# EAGLE library part AT32UC3A1512/1256/1128 (library atmega-atxmega)
AT32UC3A1512/1256/1128
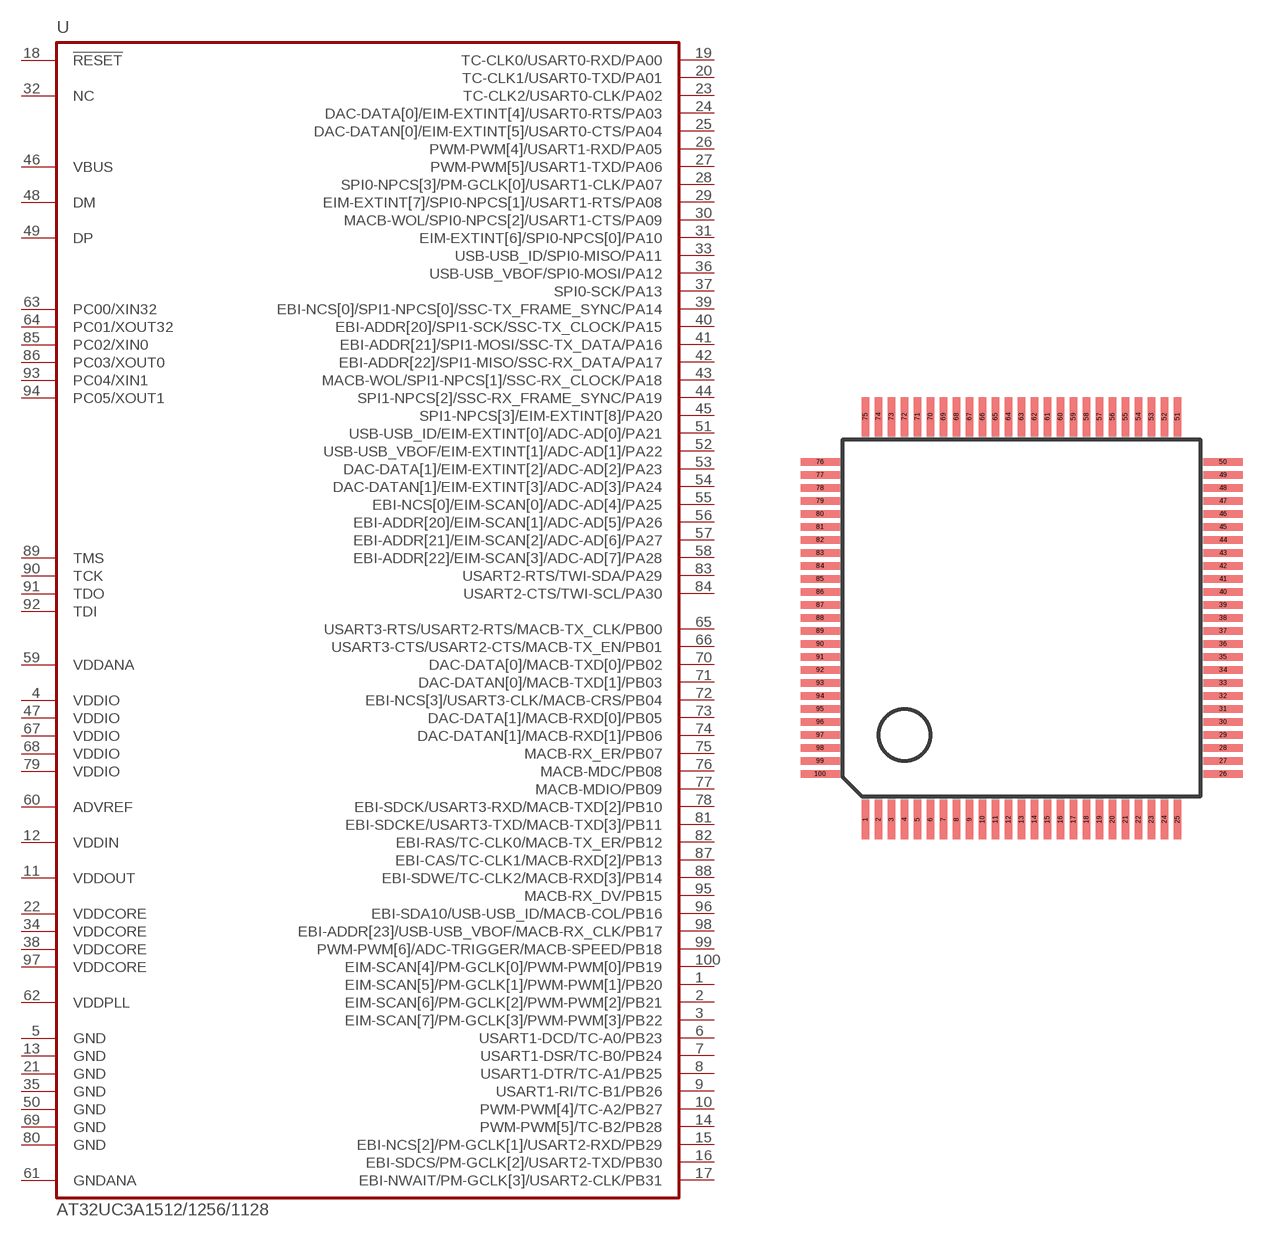
[diagram p91: symbol with the pads of TQFP100; footprint TQFP100]

Designator prefix U

## AT32UC3A1512/1256/1128  [TQFP100]
1  EIM-SCAN[5]/PM-GCLK[1]/PWM-PWM[1]/PB20
2  EIM-SCAN[6]/PM-GCLK[2]/PWM-PWM[2]/PB21
3  EIM-SCAN[7]/PM-GCLK[3]/PWM-PWM[3]/PB22
4  VDDIO  pwr
5  GND  pwr
6  USART1-DCD/TC-A0/PB23
7  USART1-DSR/TC-B0/PB24
8  USART1-DTR/TC-A1/PB25
9  USART1-RI/TC-B1/PB26
10  PWM-PWM[4]/TC-A2/PB27
11  VDDOUT  pwr
12  VDDIN  pwr
13  GND  pwr
14  PWM-PWM[5]/TC-B2/PB28
15  EBI-NCS[2]/PM-GCLK[1]/USART2-RXD/PB29
16  EBI-SDCS/PM-GCLK[2]/USART2-TXD/PB30
17  EBI-NWAIT/PM-GCLK[3]/USART2-CLK/PB31
18  !RESET  in
19  TC-CLK0/USART0-RXD/PA00
20  TC-CLK1/USART0-TXD/PA01
21  GND  pwr
22  VDDCORE  pwr
23  TC-CLK2/USART0-CLK/PA02
24  DAC-DATA[0]/EIM-EXTINT[4]/USART0-RTS/PA03
25  DAC-DATAN[0]/EIM-EXTINT[5]/USART0-CTS/PA04
26  PWM-PWM[4]/USART1-RXD/PA05
27  PWM-PWM[5]/USART1-TXD/PA06
28  SPI0-NPCS[3]/PM-GCLK[0]/USART1-CLK/PA07
29  EIM-EXTINT[7]/SPI0-NPCS[1]/USART1-RTS/PA08
30  MACB-WOL/SPI0-NPCS[2]/USART1-CTS/PA09
31  EIM-EXTINT[6]/SPI0-NPCS[0]/PA10
32  NC  nc
33  USB-USB_ID/SPI0-MISO/PA11
34  VDDCORE  pwr
35  GND  pwr
36  USB-USB_VBOF/SPI0-MOSI/PA12
37  SPI0-SCK/PA13
38  VDDCORE  pwr
39  EBI-NCS[0]/SPI1-NPCS[0]/SSC-TX_FRAME_SYNC/PA14
40  EBI-ADDR[20]/SPI1-SCK/SSC-TX_CLOCK/PA15
41  EBI-ADDR[21]/SPI1-MOSI/SSC-TX_DATA/PA16
42  EBI-ADDR[22]/SPI1-MISO/SSC-RX_DATA/PA17
43  MACB-WOL/SPI1-NPCS[1]/SSC-RX_CLOCK/PA18
44  SPI1-NPCS[2]/SSC-RX_FRAME_SYNC/PA19
45  SPI1-NPCS[3]/EIM-EXTINT[8]/PA20
46  VBUS
47  VDDIO  pwr
48  DM
49  DP
50  GND  pwr
51  USB-USB_ID/EIM-EXTINT[0]/ADC-AD[0]/PA21
52  USB-USB_VBOF/EIM-EXTINT[1]/ADC-AD[1]/PA22
53  DAC-DATA[1]/EIM-EXTINT[2]/ADC-AD[2]/PA23
54  DAC-DATAN[1]/EIM-EXTINT[3]/ADC-AD[3]/PA24
55  EBI-NCS[0]/EIM-SCAN[0]/ADC-AD[4]/PA25
56  EBI-ADDR[20]/EIM-SCAN[1]/ADC-AD[5]/PA26
57  EBI-ADDR[21]/EIM-SCAN[2]/ADC-AD[6]/PA27
58  EBI-ADDR[22]/EIM-SCAN[3]/ADC-AD[7]/PA28
59  VDDANA  pwr
60  ADVREF  pwr
61  GNDANA  pwr
62  VDDPLL  pwr
63  PC00/XIN32
64  PC01/XOUT32
65  USART3-RTS/USART2-RTS/MACB-TX_CLK/PB00
66  USART3-CTS/USART2-CTS/MACB-TX_EN/PB01
67  VDDIO  pwr
68  VDDIO  pwr
69  GND  pwr
70  DAC-DATA[0]/MACB-TXD[0]/PB02
71  DAC-DATAN[0]/MACB-TXD[1]/PB03
72  EBI-NCS[3]/USART3-CLK/MACB-CRS/PB04
73  DAC-DATA[1]/MACB-RXD[0]/PB05
74  DAC-DATAN[1]/MACB-RXD[1]/PB06
75  MACB-RX_ER/PB07
76  MACB-MDC/PB08
77  MACB-MDIO/PB09
78  EBI-SDCK/USART3-RXD/MACB-TXD[2]/PB10
79  VDDIO  pwr
80  GND  pwr
81  EBI-SDCKE/USART3-TXD/MACB-TXD[3]/PB11
82  EBI-RAS/TC-CLK0/MACB-TX_ER/PB12
83  USART2-RTS/TWI-SDA/PA29
84  USART2-CTS/TWI-SCL/PA30
85  PC02/XIN0
86  PC03/XOUT0
87  EBI-CAS/TC-CLK1/MACB-RXD[2]/PB13
88  EBI-SDWE/TC-CLK2/MACB-RXD[3]/PB14
89  TMS
90  TCK
91  TDO
92  TDI
93  PC04/XIN1
94  PC05/XOUT1
95  MACB-RX_DV/PB15
96  EBI-SDA10/USB-USB_ID/MACB-COL/PB16
97  VDDCORE  pwr
98  EBI-ADDR[23]/USB-USB_VBOF/MACB-RX_CLK/PB17
99  PWM-PWM[6]/ADC-TRIGGER/MACB-SPEED/PB18
100  EIM-SCAN[4]/PM-GCLK[0]/PWM-PWM[0]/PB19

## Footprint TQFP100 (pad centres in mm)
Thin Quad Flat Pack
smd 0.27 x 1.5: 1 -6,-7.75; 2 -5.5,-7.75; 3 -5,-7.75; 4 -4.5,-7.75; 5 -4,-7.75; 6 -3.5,-7.75; 7 -3,-7.75; 8 -2.5,-7.75; 9 -2,-7.75; 10 -1.5,-7.75; 11 -1,-7.75; 12 -0.5,-7.75; 13 0,-7.75; 14 0.5,-7.75; 15 1,-7.75; 16 1.5,-7.75; 17 2,-7.75; 18 2.5,-7.75; 19 3,-7.75; 20 3.5,-7.75; 21 4,-7.75; 22 4.5,-7.75; 23 5,-7.75; 24 5.5,-7.75; 25 6,-7.75; 51 6,7.75; 52 5.5,7.75; 53 5,7.75; 54 4.5,7.75; 55 4,7.75; 56 3.5,7.75; 57 3,7.75; 58 2.5,7.75; 59 2,7.75; 60 1.5,7.75; 61 1,7.75; 62 0.5,7.75; 63 0,7.75; 64 -0.5,7.75; 65 -1,7.75; 66 -1.5,7.75; 67 -2,7.75; 68 -2.5,7.75; 69 -3,7.75; 70 -3.5,7.75; 71 -4,7.75; 72 -4.5,7.75; 73 -5,7.75; 74 -5.5,7.75; 75 -6,7.75
smd 1.5 x 0.27: 26 7.75,-6; 27 7.75,-5.5; 28 7.75,-5; 29 7.75,-4.5; 30 7.75,-4; 31 7.75,-3.5; 32 7.75,-3; 33 7.75,-2.5; 34 7.75,-2; 35 7.75,-1.5; 36 7.75,-1; 37 7.75,-0.5; 38 7.75,0; 39 7.75,0.5; 40 7.75,1; 41 7.75,1.5; 42 7.75,2; 43 7.75,2.5; 44 7.75,3; 45 7.75,3.5; 46 7.75,4; 47 7.75,4.5; 48 7.75,5; 49 7.75,5.5; 50 7.75,6; 76 -7.75,6; 77 -7.75,5.5; 78 -7.75,5; 79 -7.75,4.5; 80 -7.75,4; 81 -7.75,3.5; 82 -7.75,3; 83 -7.75,2.5; 84 -7.75,2; 85 -7.75,1.5; 86 -7.75,1; 87 -7.75,0.5; 88 -7.75,0; 89 -7.75,-0.5; 90 -7.75,-1; 91 -7.75,-1.5; 92 -7.75,-2; 93 -7.75,-2.5; 94 -7.75,-3; 95 -7.75,-3.5; 96 -7.75,-4; 97 -7.75,-4.5; 98 -7.75,-5; 99 -7.75,-5.5; 100 -7.75,-6